# Altium footprint library MainBLib.PcbLib: 36 footprints (part 3 of 3)
Each footprint in its own frame and in the unit in brackets; x right, y up, seen from the top. Pads: shape width x height; smd on the part's side, far side on the other; paste and mask are expansions set on the pad; w line width, h text height; cw(c..) or ccw(c..) is an arc to the next point about the centre after c.
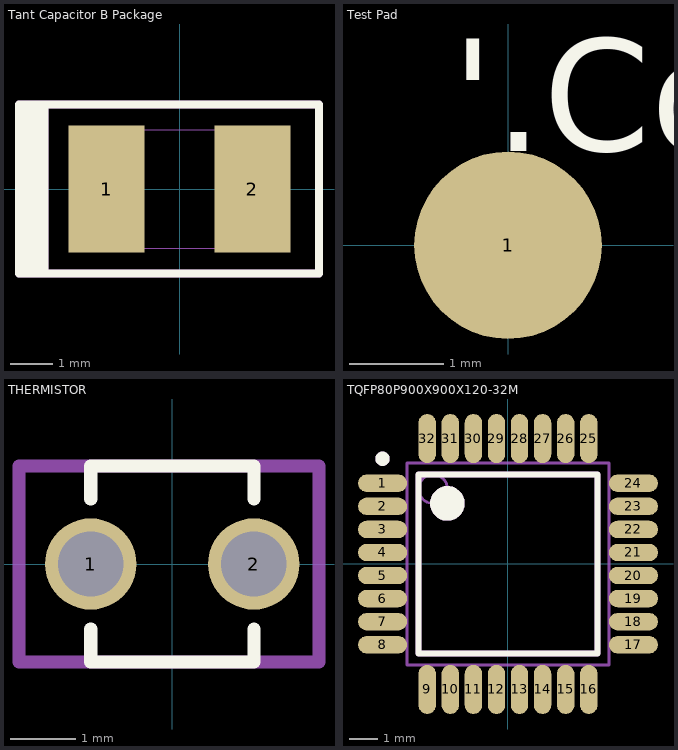
[diagram p2: the footprints below, top view; thin cyan lines are the x and y axes]

## Tant Capacitor B Package [mm]
pads (2):
  rect 1.8x3 smd: 1(-1.725,0) 2(1.725,0)
Top Overlay:
  rectangle: -3.725,-2 -3.1,2
  lines w0.2: -3.8,-2 -3.8,2 3.3,2 3.3,-2 -3.8,-2
Mechanical 1:
  lines w0: -0.9,-1.4 -0.9,1.4 ; -1.7,-1.4 1.7,-1.4 1.7,1.4 -1.7,1.4 -1.7,-1.4
Mechanical 29:
  rectangle: -3.725,-2 -3.1,2
  lines w0.2: -3.8,-2 3.3,-2 3.3,2 -3.8,2 -3.8,-2
  text "'.Designator'" at -1.5,-0.4 h1.2
3D body: height 1.9, standoff 0, extent -1.699,-1.399 1.699,1.399
3D body: height 1.91, standoff 1.9, extent -1.699,-1.399 -0.901,1.399

## Test Pad [mm]
pads (1):
  round 2 smd: 1(0,0)
Top Overlay:
  text "'.Comment'" at -0.6,1 h1.2

## THERMISTOR [mm]
pads (2):
  round 1.4 hole 1: 1(-1.25,0) 2(1.25,0)
Top Overlay:
  lines w0.2: -1.25,-1 -1.25,-1.5 1.25,-1.5 1.25,-1 ; -1.25,1 -1.25,1.5 1.25,1.5 1.25,1
Mechanical 1:
  lines w0.04: -1.45,-0.3 -0.95,-0.3 -0.95,0.2 -1.45,0.2 -1.45,-0.3 ; 1.05,-0.3 1.55,-0.3 1.55,0.2 1.05,0.2 1.05,-0.3
Mechanical 29:
  lines w0.2: -2.35,-1.5 -2.35,1.5 2.25,1.5 2.25,-1.5 -2.35,-1.5
  text "'.Designator'" at -1.45,-0.5 h1.2
3D body: height 11.15, standoff 8.85, extent -0.95,-1.145 1.05,1.145
3D body: height 10.1, standoff -2, extent -1.449,-0.299 -0.951,0.199
3D body: height 10.1, standoff -2, extent 1.051,-0.299 1.549,0.199

## TQFP80P900X900X120-32M [mm] "TQFP, 32-Leads, Body 7.00x7.00mm, Pitch 0.80mm, IPC Low Density"
height 1.2
pads (32):
  oval 1.7x0.6 smd: 1(-4.35,2.8) 2(-4.35,2) 3(-4.35,1.2) 4(-4.35,0.4) 5(-4.35,-0.4) 6(-4.35,-1.2) 7(-4.35,-2) 8(-4.35,-2.8) 17(4.35,-2.8) 18(4.35,-2) 19(4.35,-1.2) 20(4.35,-0.4) 21(4.35,0.4) 22(4.35,1.2) 23(4.35,2) 24(4.35,2.8)
  oval 0.6x1.7 smd: 9(-2.8,-4.35) 10(-2,-4.35) 11(-1.2,-4.35) 12(-0.4,-4.35) 13(0.4,-4.35) 14(1.2,-4.35) 15(2,-4.35) 16(2.8,-4.35) 25(2.8,4.35) 26(2,4.35) 27(1.2,4.35) 28(0.4,4.35) 29(-0.4,4.35) 30(-1.2,4.35) 31(-2,4.35) 32(-2.8,4.35)
Top Overlay:
  circle w0.6: c-2.1,2.1 r0.3
  circle w0.25: c-4.35,3.65 r0.125
  lines w0.2: -3.1,-3.1 3.1,-3.1 3.1,3.1 -3.1,3.1 -3.1,-3.1
Mechanical 1:
  circle w0.1: c-2.6,2.6 r0.5
  lines w0.1: -3.5,-3.5 -3.5,3.5 3.5,3.5 3.5,-3.5 -3.5,-3.5
Mechanical 29:
  circle w0.25: c-4.35,3.65 r0.125
  circle w0.6: c-2.1,2.1 r0.3
  lines w0.2: -3.1,-3.1 -3.1,3.1 3.1,3.1 3.1,-3.1 -3.1,-3.1
  text "'.Designator'" at -1.2,-0.6 h1.2
3D body "TQFP80P900X900X120-32M.step": height 1.2, standoff 0, extent -4.5,-4.5 4.5,4.5